# Altium schematic symbol library MOS.SchLib: 13 symbols
Pins are listed as number, name and electrical type; pins without a type are passive.

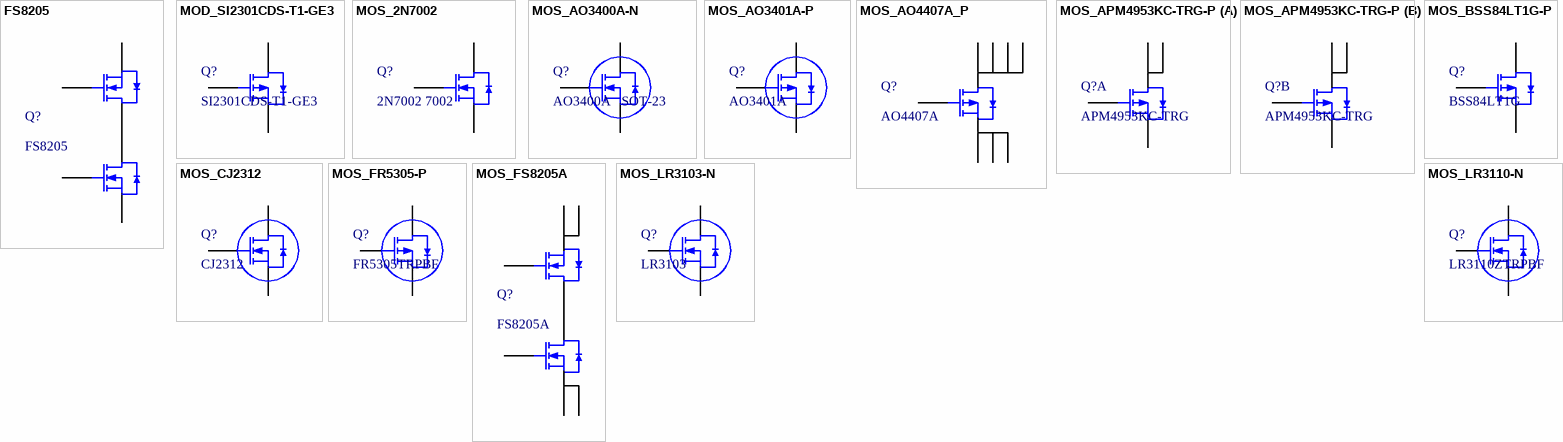
[diagram p0: symbols FS8205 to MOS_LR3110-N]

## FS8205
designator Q?
MOS(场效应管); ComponentLink1Description: 供应商链接; ComponentLink1URL: http://www.szlcsc.com/product/details_33217.html; Package: SOT-23-6; Supplier: LC; SuppliersPartNumber: C32254
footprint SOT-23-6
pins: 1 S, 2 D, 3 S, 4 G, 5 D, 6 G

## MOD_SI2301CDS-T1-GE3
designator Q?, comment SI2301CDS-T1-GE3
MOS(场效应管); ComponentLink1Description: 供应商链接; ComponentLink1URL: http://www.szlcsc.com/product/details_11030.html; Package: SOT-23(SOT-23-3); Supplier: LC; SuppliersPartNumber: C10487
footprint SOT-23(SOT-23-3)
pins: 1 G, 2 S, 3 D

## MOS_2N7002
designator Q?, comment 2N7002 7002
MOS(场效应管); ComponentLink1Description: 供应商链接; ComponentLink1URL: http://www.szlcsc.com/product/details_9040.html; Package: SOT-23(SOT-23-3); Supplier: LC; SuppliersPartNumber: C8545
footprint SOT-23-3
pins: 1 G, 2 S, 3 D

## MOS_AO3400A-N
designator Q?, comment AO3400A   SOT-23
MOS(场效应管)AO3400A N道沟 X0YV1T SOT-23; ComponentLink1Description: 供应商链接; ComponentLink1URL: http://www.szlcsc.com/product/details_21629.html; Package: SOT-23; Supplier: LC; SuppliersPartNumber: C20917
footprint SOT-23-3L (http://www.aosmd.com/res/packaging_information/SOT-23-3L.pdf)
pins: 1 G, 2 S, 3 D

## MOS_AO3401A-P
designator Q?, comment AO3401A
PMOS(场效应管)AO3401A P道沟 X13A15 SOT-23; ComponentLink1Description: 供应商链接; ComponentLink1URL: http://www.szlcsc.com/product/details_15801.html; Package: SOT-23; Supplier: LC; SuppliersPartNumber: C15127
footprint SOT-23-3L (http://www.aosmd.com/res/packaging_information/SOT-23-3L.pdf)
pins: 1 G, 2 S, 3 D

## MOS_AO4407A_P
designator Q?, comment AO4407A
MOS(场效应管); ComponentLink1Description: 供应商链接; ComponentLink1URL: http://www.szlcsc.com/product/details_16754.html; Package: SOIC-8_150mil; Supplier: LC; SuppliersPartNumber: C16072
footprint SOIC-8_150mil
pins: 1 S, 2 S, 3 S, 4 G, 5 D, 6 D, 7 D, 8 D

## MOS_APM4953KC-TRG-P
designator Q?, comment APM4953KC-TRG
MOS(场效应管); ComponentLink1Description: 供应商链接; ComponentLink1URL: http://www.szlcsc.com/product/details_21609.html; Package: SOP-8_150mil; Supplier: LC; SuppliersPartNumber: C20897
footprint SOP-8_150mil
part A pins: 1 S, 2 G, 7 D, 8 D
part B pins: 3 S, 4 G, 5 D, 6 D

## MOS_BSS84LT1G-P
designator Q?, comment BSS84LT1G
MOS(场效应管); ComponentLink1Description: 供应商链接; ComponentLink1URL: http://www.szlcsc.com/product/details_8986.html; Package: SOT-23(SOT-23-3); Supplier: LC; SuppliersPartNumber: C8492
footprint SOT-23(SOT-23-3)
pins: 1 G, 2 S, 3 D

## MOS_CJ2312
designator Q?, comment CJ2312
NMOS(场效应管); Package: SOT-23; Supplier: LC; SuppliersPartNumber: C20917; ComponentLink1Description: 供应商; ComponentLink1URL: https://so.szlcsc.com/global.html?k=CJ231
footprint SOT-23-3
pins: 1 G, 2 S, 3 D

## MOS_FR5305-P
designator Q?, comment FR5305TRPBF
PMOS(场效应管); ComponentLink1Description: 供应商链接; ComponentLink1URL: https://item.szlcsc.com/3002.html; Package: SOT-23; Supplier: LC; SuppliersPartNumber: C15127
footprint TO-252AA
pins: 1 G, 3 S, 4 D

## MOS_FS8205A
designator Q?, comment FS8205A
MOS(场效应管); ComponentLink1Description: 供应商链接; ComponentLink1URL: http://www.szlcsc.com/product/details_16734.html; Package: TSSOP-8_3x4.4x065P; Supplier: LC; SuppliersPartNumber: C16052
footprint TSSOP-8_3x4.4x065P
pins: 1 D, 2 S, 3 S, 4 G, 5 G, 6 S, 7 S, 8 D

## MOS_LR3103-N
designator Q?, comment LR3103
NMOS(场效应管); ComponentLink1Description: 供应商链接; ComponentLink1URL: http://www.szlcsc.com/product/details_21629.html; Package: SOT-23; Supplier: LC; SuppliersPartNumber: C20917
footprint TO-252AA
pins: 1 G, 3 S, 4 D

## MOS_LR3110-N
designator Q?, comment LR3110ZTRPBF
NMOS(场效应管); ComponentLink1Description: 供应商链接; ComponentLink1URL: http://www.szlcsc.com/product/details_21629.html; Package: SOT-23; Supplier: LC; SuppliersPartNumber: C20917
footprint TO-252AA
pins: 1 G, 3 S, 4 D